# Altium schematic symbol library Z80Lib.SchLib: 11 symbols
Pins are listed as number, name and electrical type; pins without a type are passive.

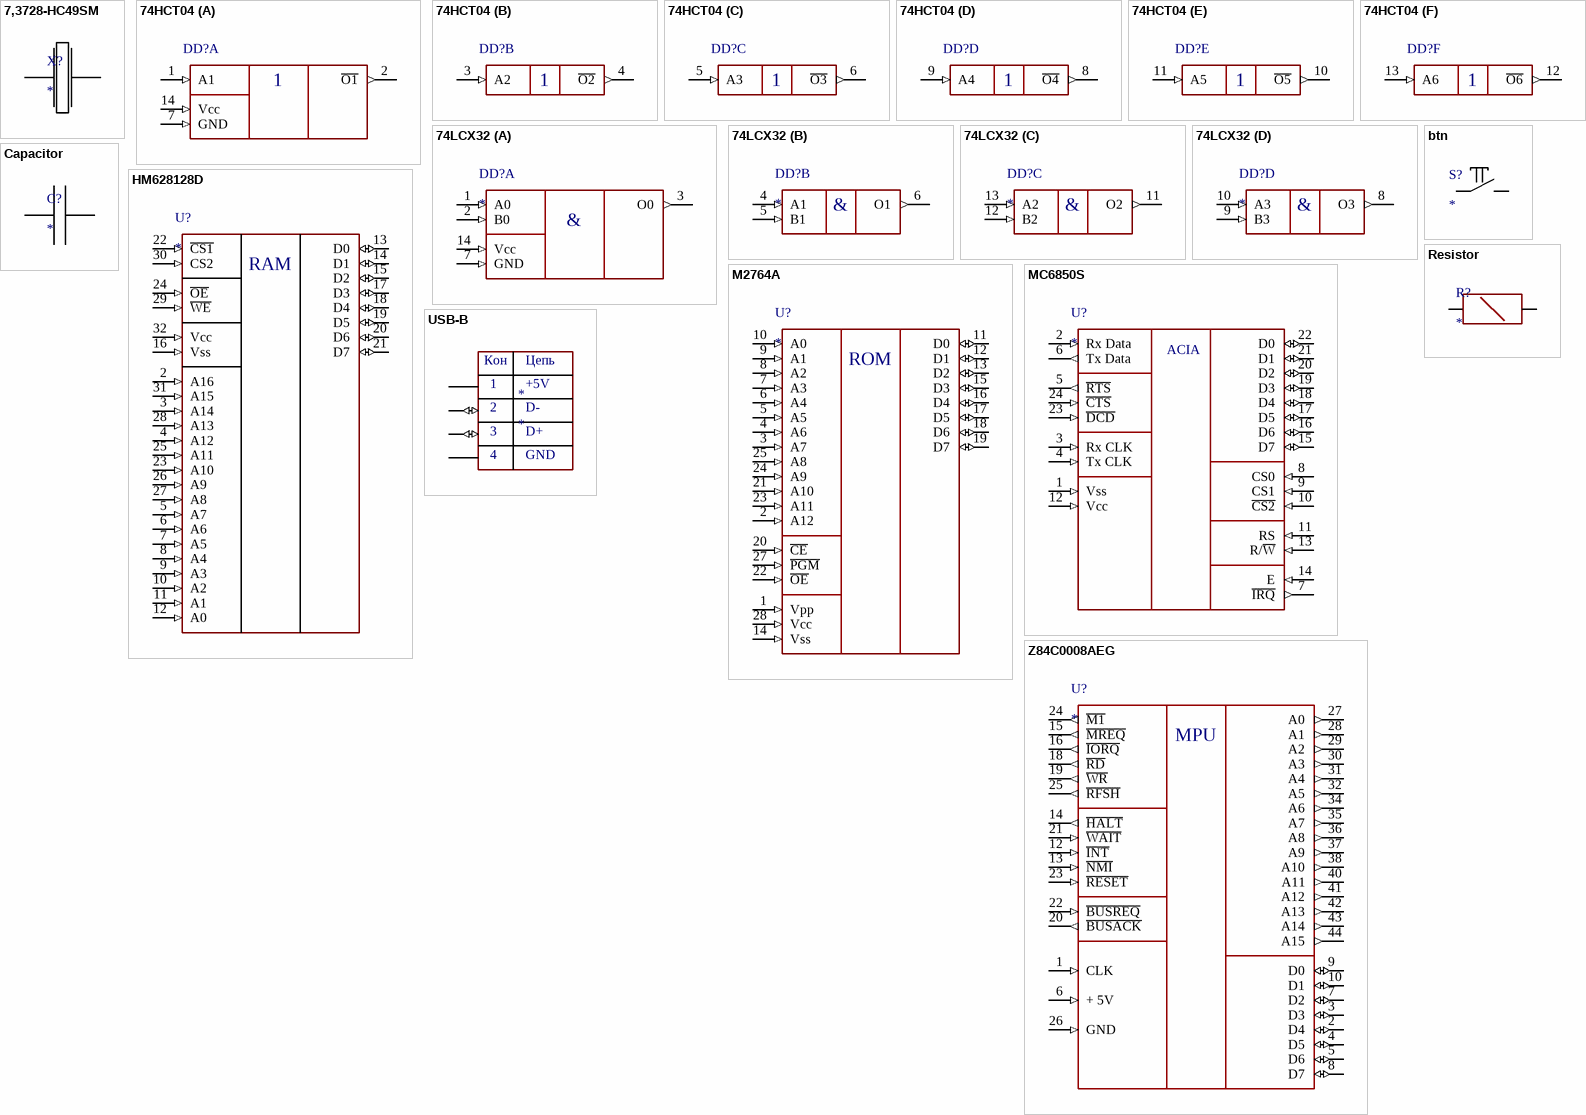
[diagram p0: symbols 7,3728-HC49SM to Z84C0008AEG]

## 7,3728-HC49SM
designator X?
Резонатор
footprint HC-49S
pins: 1, 2

## 74HCT04
designator DD?  (value not drawn)
6x not gate
footprint N014 (DIP; 14 Leads; Row Spacing 7.62 mm; Pitch 2.54 mm)
part A pins: 1 A1 (in), 2 ~{O1} (out), 7 GND (in), 14 Vcc (in)
part B pins: 3 A2 (in), 4 ~{O2} (out)
part C pins: 5 A3 (in), 6 ~{O3} (out)
part D pins: 8 ~{O4} (out), 9 A4 (in)
part E pins: 10 ~{O5} (out), 11 A5 (in)
part F pins: 12 ~{O6} (out), 13 A6 (in)

## 74LCX32
designator DD?
4x 2-or gates
footprint SOP14 (SOP, 14-Leads, Body 10,20x5,30mm, Pitch 1,27mm, IPC Medium Density)
part A pins: 1 A0 (in), 2 B0 (in), 3 O0 (out), 7 GND (in), 14 Vcc (in)
part B pins: 4 A1 (in), 5 B1 (in), 6 O1 (out)
part C pins: 11 O2 (out), 12 B2 (in), 13 A2 (in)
part D pins: 8 O3 (out), 9 B3 (in), 10 A3 (in)
part A text: &
part B text: &
part C text: &
part D text: &

## btn
designator S?
footprint btn
pins: 1, 2

## Capacitor
designator C?
footprint 1206 Capacitor (Chip Capacitor, 2-Leads, Body 3,20x1,60mm, IPC Medium Density)
pins: 1, 2

## HM628128D
designator U?
RAM
footprint SOP32 (SOP, 32-Leads, Body 20,70x11,30mm, Pitch 1,27mm, IPC Medium Density)
pins: 2 A16 (in), 3 A14 (in), 4 A12 (in), 5 A7 (in), 6 A6 (in), 7 A5 (in), 8 A4 (in), 9 A3 (in), 10 A2 (in), 11 A1 (in), 12 A0 (in), 13 D0 (io), 14 D1 (io), 15 D2 (io), 16 Vss (in), 17 D3 (io), 18 D4 (io), 19 D5 (io), 20 D6 (io), 21 D7 (io), 22 ~{CS1} (in), 23 A10 (in), 24 ~{OE} (in), 25 A11 (in), 26 A9 (in), 27 A8 (in), 28 A13 (in), 29 ~{WE} (in), 30 CS2 (in), 31 A15 (in), 32 Vcc (in)

## M2764A
designator U?
eprom
footprint DIP28
pins: 1 Vpp (in), 2 A12 (in), 3 A7 (in), 4 A6 (in), 5 A5 (in), 6 A4 (in), 7 A3 (in), 8 A2 (in), 9 A1 (in), 10 A0 (in), 11 D0 (io), 12 D1 (io), 13 D2 (io), 14 Vss (in), 15 D3 (io), 16 D4 (io), 17 D5 (io), 18 D6 (io), 19 D7 (io), 20 ~{CE} (in), 21 A10 (in), 22 ~{OE} (in), 23 A11 (in), 24 A9 (in), 25 A8 (in), 27 ~{PGM} (in), 28 Vcc (in)
text: ROM

## MC6850S
designator U?
ACIA
footprint DIP24
pins: 1 Vss (in), 2 Rx Data (in), 3 Rx CLK (in), 4 Tx CLK (in), 5 ~{RTS} (out), 6 Tx Data (out), 7 ~{IRQ} (out), 8 CS0 (in), 9 CS1 (in), 10 ~{CS2} (in), 11 RS (in), 12 Vcc (in), 13 R/~{W} (in), 14 E (in), 15 D7 (io), 16 D6 (io), 17 D5 (io), 18 D4 (io), 19 D3 (io), 20 D2 (io), 21 D1 (io), 22 D0 (io), 23 ~{DCD} (in), 24 ~{CTS} (in)

## Resistor
designator R?
5%, 0.5W
footprint 1206 Resistor (Chip Resistor, 2-Leads, Body 3,10x1,60mm, IPC Medium Density)
pins: 0, 1

## USB-B
designator *
footprint USB-B
pins: 1, 2 (io), 3 (io), 4
text: Кон; Цепь; +5V; D-; D+; GND

## Z84C0008AEG
designator U?
Z80 CPU, 8Mhz
footprint LQFP44 (LQFP, 44-Leads, Body 10,00x10,00mm, Pitch 0,80mm, IPC Medium Densit)
pins: 1 CLK (in), 2 D4 (io), 3 D3 (io), 4 D5 (io), 5 D6 (io), 6 + 5V (in), 7 D2 (io), 8 D7 (io), 9 D0 (io), 10 D1 (io), 12 ~{INT} (in), 13 ~{NMI} (in), 14 ~{HALT} (out), 15 ~{MREQ} (out), 16 ~{IORQ} (out), 18 ~{RD} (out), 19 ~{WR} (out), 20 ~{BUSACK} (out), 21 ~{WAIT} (in), 22 ~{BUSREQ} (in), 23 ~{RESET} (in), 24 ~{M1} (out), 25 ~{RFSH} (out), 26 GND (in), 27 A0 (out), 28 A1 (out), 29 A2 (out), 30 A3 (out), 31 A4 (out), 32 A5 (out), 34 A6 (out), 35 A7 (out), 36 A8 (out), 37 A9 (out), 38 A10 (out), 40 A11 (out), 41 A12 (out), 42 A13 (out), 43 A14 (out), 44 A15 (out)
text: MPU